# EAGLE library part SIM8060-6-0-14-00-A (library simCardHolder)
SIM8060 is a hinged Sim Card Connector. With 6 contacts, with switch for card detection. Profile above PCB is 1.43mm. Check availability <https://pricing.snapeda.com/parts/SIM8060-6-0-14-00-A/Global%20Connector%20Technology/view-part?ref=eda>
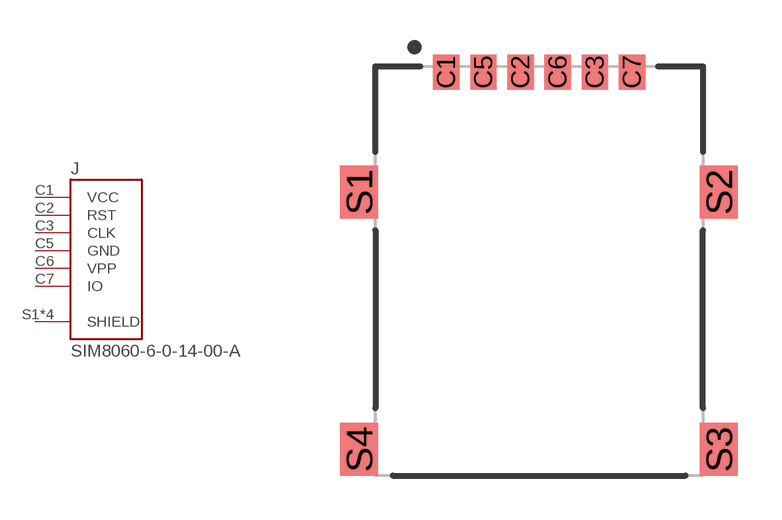
[diagram p2: symbol with the pads of GCT_SIM8060-6-0-14-00-A; footprint GCT_SIM8060-6-0-14-00-A]

Designator prefix J

## SIM8060-6-0-14-00-A (AVAILABILITY: In Stock; CHECK_PRICES: https://www.snapeda.com/parts/SIM8060-6-0-14-00-A/Global+Connector+Technology/view-part/?ref=eda; DESCRIPTION: 6 Position Card Connector NANO SIM Surface Mount, Right Angle Gold; MF: Global Connector Technology; MP: SIM8060-6-0-14-00-A; PACKAGE: None; PRICE: None; SNAPEDA_LINK: https://www.snapeda.com/parts/SIM8060-6-0-14-00-A/Global+Connector+Technology/view-part/?ref=snap)  [GCT_SIM8060-6-0-14-00-A]
C1  VCC  pas
C2  RST  pas
C3  CLK  pas
C5  GND  pas
C6  VPP  pas
C7  IO  pas
S1  SHIELD  pas
S2  SHIELD  pas
S3  SHIELD  pas
S4  SHIELD  pas

## Footprint GCT_SIM8060-6-0-14-00-A (pad centres in mm)
smd 0.9 x 1.2: C1 -3.175,6.8; C2 -0.635,6.8; C3 1.905,6.8; C5 -1.905,6.8; C6 0.635,6.8; C7 3.175,6.8
smd 1.3 x 1.8: S1 -6.15,2.7; S2 6.15,2.7; S3 6.15,-6.1; S4 -6.15,-6.1